# Altium schematic symbol library ws2812esp32_v1.0_Schlib.SchLib: 20 symbols
Pins are listed as number, name and electrical type; pins without a type are passive.

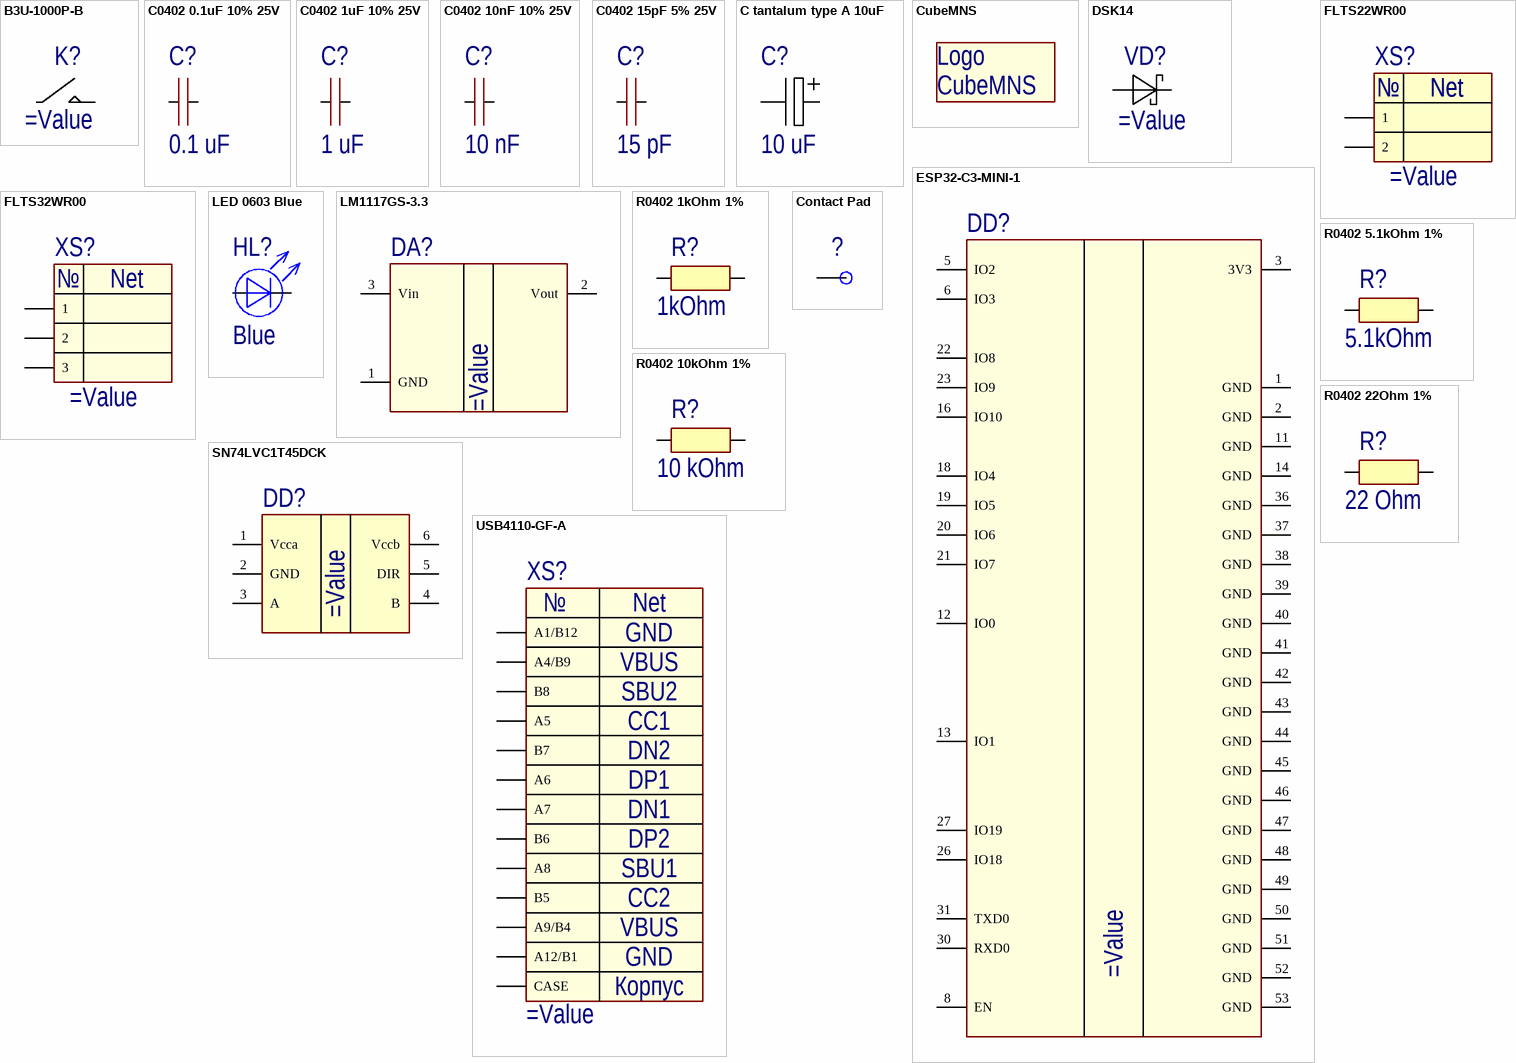
[diagram p0: symbols B3U-1000P-B to Сontact Pad]

## B3U-1000P-B
designator K?
SWITCH TACTILE SPST-NO 0.05A 12V; Part Number: B3U-1000P-B; Manufacture: Omron; Value: B3U-1000P-B; Seller: DigiKey; Tolerance: *; Ohm/H/F: *; Case Type: SMD; Case: 3.0 x 2.5 x 1.85; Current: *; Voltage: *; Watt: *; Temperature min: -40; Temperature max: +85; Seller Link: https://www.digikey.com/en/products/detail/omron-electronics-inc-emc-div/B3U-1000P-B/1811777?s=N4IgTCBcDaIEIGYCqBaAjABiwBRXEAugL5A
footprint B3U-1000P-B
pins: 1, 2

## C0402 0.1uF 10% 25V
designator C?, comment 0.1 uF
CAP CER 0.1UF 50V X7R 0402; Part Number: GRM155R71H104KE14D; Manufacture: Murata; Tolerance: 10; Ohm/H/F: 0.0000001; Seller: DigiKey; Analog: *; Value: 0.1 uF; Case Type: SMD; Case: 0402; Current: *; Voltage: 50V; Watt: *; Temperature min: -40; Temperature max: +85; Seller Link: https://www.digikey.com/en/products/detail/murata-electronics/GRM155R71H104KE14D/4906220
footprint C0402 (Chip Capacitor, 2-Leads, Body 1,00x0,50mm, IPC High Density)
pins: 1, 2

## C0402 1uF 10% 25V
designator C?, comment 1 uF
CAP CER 1UF 25V X5R 0402; Part Number: GRM155R61E105KA12D; Manufacture: Murata; Seller: DigiKey; Analog: *; Value: 1 uF; Tolerance: *; Ohm/H/F: *; Case Type: SMD; Case: 0402; Current: *; Voltage: 25V; Watt: *; Temperature min: -40; Temperature max: +85; Seller Link: https://www.digikey.com/en/products/detail/murata-electronics/GRM155R61E105KA12D/4905139
footprint C0402 (Chip Capacitor, 2-Leads, Body 1,00x0,50mm, IPC High Density)
pins: 1, 2

## C0402 10nF 10% 25V
designator C?, comment 10 nF
CAP CER 10000PF 25V X7R 0402; Part Number: GRM155R71E103KA01D; Manufacture: Murata; Tolerance: 10%; Ohm/H/F: 0.00000001; Seller: DigiKey; Analog: *; Value: 10 nF; Case Type: SMD; Case: 0402; Current: *; Voltage: 25V; Watt: *; Temperature min: -40; Temperature max: +85; Seller Link: https://www.digikey.com/en/products/detail/murata-electronics/GRM155R71E103KA01D/587223
footprint C0402 (Chip Capacitor, 2-Leads, Body 1,00x0,50mm, IPC High Density)
pins: 1, 2

## C0402 15pF 5% 25V
designator C?, comment 15 pF
CAP CER 15PF 50V C0G/NP0 0402; Part Number: GRM1555C1H150JA01D; Manufacture: Murata; Tolerance: 5; Ohm/H/F: 0.000000000015; Seller: DigiKey; Analog: *; Value: 15 pF; Case Type: SMD; Case: 0402; Current: *; Voltage: 50V; Watt: *; Temperature min: -40; Temperature max: +85; Seller Link: https://www.digikey.com/en/products/detail/murata-electronics/GRM1555C1H150JA01D/2791374
footprint C0402 (Chip Capacitor, 2-Leads, Body 1,00x0,50mm, IPC High Density)
pins: 1, 2

## C tantalum type A 10uF
designator C?, comment 10 uF
CAP TANT 10UF 10% 10V 1206; Part Number: T491A106K010AT; Manufacture: Kemet; Analog: XiangJiang CA45A010K106TA; Ohm/H/F: 0.000010; Seller: DigiKey; Value: 10 uF; Tolerance: 10%; Case Type: SMD; Case: Molded A; Current: *; Voltage: 10V; Watt: *; Temperature min: -40; Temperature max: +85; Seller Link: https://www.digikey.com/en/products/detail/kemet/T491A106K010AT/818545
footprint C tantalin Type A (Molded Capacitor, 2-Leads, Body 3,20x1,60mm, IPC Medium Density)
pins: 1 +, 2 -

## CubeMNS
designator Logo  (no BOM)
footprint CubeMNS

## DSK14
designator VD?
DIODE SCHOTTKY 40V 1A; Part Number: DSK14; Manufacture: MDD; Value: DSK14; Seller: DigiKey; Analog: *; Tolerance: *; Ohm/H/F: *; Case Type: SMD; Case: SOD-123FL; Current: 1A; Voltage: 40V; Watt: *; Temperature min: -55; Temperature max: +150; Seller Link: https://www.digikey.com/en/products/detail/nextgen-components/DSK14/14291074
footprint SOD-123F (SOD-123FL)
pins: 1 -, 2 +

## ESP32-C3-MINI-1
designator DD?
RF TXRX MODULE BT PCB TRACE SMD; Part Number: ESP32-C3-MINI-1; Manufacture: Espressif; Value: ESP32-C3-MINI-1; Current: 350 mA; Voltage: +3.3V; Seller: DigiKey; Analog: *; Tolerance: *; Ohm/H/F: *; Case Type: SMD; Case: SMD Module 13.2 x 12.5 x 2.4; Watt: *; Temperature min: -40; Temperature max: +85; Seller Link: https://www.digikey.com/en/products/detail/espressif-systems/ESP32-C3-MINI-1-H4/14548892
footprint ESP32-C3-MINI-1 (https://www.espressif.com/sites/default/files/documentation/esp32-c3-mini-1_datasheet_en.pdf)
pins: 1 GND, 2 GND, 3 3V3, 5 IO2, 6 IO3, 8 EN, 11 GND, 12 IO0, 13 IO1, 14 GND, 16 IO10, 18 IO4, 19 IO5, 20 IO6, 21 IO7, 22 IO8, 23 IO9, 26 IO18, 27 IO19, 30 RXD0, 31 TXD0, 36 GND, 37 GND, 38 GND, 39 GND, 40 GND, 41 GND, 42 GND, 43 GND, 44 GND, 45 GND, 46 GND, 47 GND, 48 GND, 49 GND, 50 GND, 51 GND, 52 GND, 53 GND

## FLTS22WR00
designator XS?
SMD TERMINAL BLOCK 2 PIN; Part Number: FLTS22WR00; Manufacture: Amphenol; Analog: WAGO 2060-472/998-404; Value: FLTS22WR00; Current: 7A; Voltage: 250V; Seller: DigiKey; Tolerance: *; Ohm/H/F: *; Case Type: SMD; Case: 7.9 x 13.1 x 4.6; Watt: *; Temperature min: -40; Temperature max: +105; Seller Link: https://www.digikey.com/en/products/detail/amphenol-cs-commercial-products/FLTS22WR00/20422799
footprint FLTS22WR00
pins: 1, 2
text: №; Net

## FLTS32WR00
designator XS?
SMD TERMINAL BLOCK 3 PIN; Part Number: FLTS32WR00; Manufacture: Amphenol; Analog: WAGO 2060-473/998-404; Value: FLTS32WR00; Current: 7A; Voltage: 250V; Seller: DigiKey; Tolerance: *; Ohm/H/F: *; Case Type: SMD; Case: 11.9 x 13.1 x 4.6; Watt: *; Temperature min: -40; Temperature max: +105; Seller Link: https://www.digikey.com/en/products/detail/amphenol-cs-commercial-products/FLTS32WR00/20426575
footprint FLTS32WR00
pins: 1, 2, 3
text: №; Net

## LED 0603 Blue
designator HL?, comment Blue
LED 0603 Blue; Part Number: APT1608QBC/D; Manufacture: Kingbright; Current: 20mA; Voltage: 4V; Seller: DigiKey; Analog: *; Value: Blue; Tolerance: *; Ohm/H/F: *; Case Type: SMD; Case: 0603; Watt: *; Temperature min: -40; Temperature max: +85; Seller Link: https://www.digikey.com/en/products/detail/kingbright/APT1608QBC-D/2163697
footprint LED0603 (APT1608)
pins: 1 -, 2 +

## LM1117GS-3.3
designator DA?
IC REG LINEAR 3.3V 1A SOT223-3; Part Number: LM1117GS-3.3; Manufacture: Taejin; Analog: ST LDL1117S33R, TI LM1117MP-3.3; Value: LM1117GS-3.3; Voltage: +3.3V; Seller: DigiKey; Tolerance: *; Ohm/H/F: *; Case Type: SMD; Case: SOT-223; Current: 1 A; Watt: *; Temperature min: -40; Temperature max: +85; Seller Link: https://www.digikey.com/en/products/detail/taejin/LM1117GS-3-3/22237426?s=N4IgTCBcDaIDIFkCMKDsBxAygWgMwDpcQBdAXyA
footprint SOT223 (SOT223, 4-Leads, Body 6,50x7,00mm (avg), Pitch 2,30mm, IPC Medium Density)
pins: 1 GND, 2 Vout, 3 Vin

## R0402 1kOhm 1%
designator R?, comment 1kOhm
RES 1K OHM 1/16W 1% 0402 SMD; Part Number: RC0402FR-071KL; Manufacture: Yageo; Ohm/H/F: 1000; Watt: 0.063; Seller: DigiKey; Analog: *; Value: 1kOhm; Tolerance: 1%; Case Type: SMD; Case: 0402; Current: *; Voltage: *; Temperature min: -40; Temperature max: +85; Seller Link: https://www.digikey.com/en/products/detail/yageo/RC0402FR-071KL/726513
footprint R0402
pins: 1, 2

## R0402 5.1kOhm 1%
designator R?, comment 5.1kOhm
RES 5.1K OHM 1/16W 1% 0402 SMD; Part Number: RC0402FR-075K1L; Manufacture: Yageo; Ohm/H/F: 5100; Watt: 0.063; Seller: DigiKey; Analog: *; Value: 5.1kOhm; Tolerance: 1%; Case Type: SMD; Case: 0402; Current: *; Voltage: *; Temperature min: -40; Temperature max: +85; Seller Link: https://www.digikey.com/en/products/detail/yageo/RC0402FR-075K1L/726624
footprint R0402
pins: 1, 2

## R0402 10kOhm 1%
designator R?, comment 10 kOhm
RES 10K OHM 1/16W 1% 0402 SMD; Part Number: RC0402FR-0710KL; Manufacture: Yageo; Ohm/H/F: 10000; Watt: 0.063; Seller: DigiKey; Analog: *; Value: 10 kOhm; Tolerance: 1%; Case Type: SMD; Case: 0402; Current: *; Voltage: *; Temperature min: -40; Temperature max: +85; Seller Link: https://www.digikey.com/en/products/detail/yageo/RC0402FR-0710KL/726523
footprint R0402
pins: 1, 2

## R0402 22Ohm 1%
designator R?, comment 22 Ohm
RES 22 OHM 1/16W 1% 0402 SMD; Part Number: RC0402FR-0722RL; Manufacture: Yageo; Ohm/H/F: 22; Watt: 0.063; Seller: DigiKey; Analog: *; Value: 22 Ohm; Tolerance: 1%; Case Type: SMD; Case: 0402; Current: *; Voltage: *; Temperature min: -40; Temperature max: +85; Seller Link: https://www.digikey.com/en/products/detail/yageo/RC0402FR-0722RL/726562
footprint R0402
pins: 1, 2

## SN74LVC1T45DCK
designator DD?
IC TRANSLTR BIDIRECTIONAL SC70-6; Part Number: SN74LVC1T45DCK; Manufacture: TI; Value: SN74LVC1T45DCK; Voltage: +5.5V; Seller: DigiKey; Analog: *; Tolerance: *; Ohm/H/F: *; Case Type: SMD; Case: SC70 DCK; Current: *; Watt: *; Temperature min: -40; Temperature max: +85; Seller Link: https://www.digikey.com/en/products/detail/texas-instruments/SN74LVC1T45DCKR/639456
footprint SC-70-6 (SOT23, 6-Leads, Body 2,00x2,10mm, Pitch 0,65mm, IPC Medium Density)
pins: 1 Vcca, 2 GND, 3 A, 4 B, 5 DIR, 6 Vccb

## USB4110-GF-A
designator XS?
CONN RCP USB2.0 TYP C 24P SMD RA; Part Number: USB4110-GF-A; Manufacture: GCT; Analog: Amphenol GSB1C41110SSHR; Value: USB4110-GF-A; Current: 5A; Voltage: 48V; Seller: DigiKey; Tolerance: *; Ohm/H/F: *; Case Type: SMD; Case: USB2.0 TYP C 24P SMD RA; Watt: *; Temperature min: -40; Temperature max: +85; Seller Link: https://www.digikey.com/en/products/detail/gct/USB4110-GF-A/10384547
footprint USB4110-GF-A
pins: 0 CASE, A1/B12, A4/B9, A5, A6, A7, A8, A9/B4, A12/B1, B5, B6, B7, B8
text: №; Net; GND; VBUS; SBU2; CC1; DN2; DP1; DN1; DP2; SBU1; CC2; Корпус

## Сontact Pad
designator ?  (no BOM)
Round 0.5 mm; Part Number: *; Manufacture: *; Analog: *; Value: *; Tolerance: *; Ohm/H/F: *; Case Type: SMD; Case: D0.5; Current: *; Voltage: *; Watt: *; Temperature min: -40; Temperature max: +85; Seller: *; Seller Link: *
footprint СontactPad0.5 (Сontact Pad D 0.5 mm)
pins: 1, 1